# Altium footprint library LV_Switch.PcbLib: 2 footprints
Each footprint in its own frame and in the unit in brackets; x right, y up, seen from the top. Pads: shape width x height; smd on the part's side, far side on the other; paste and mask are expansions set on the pad; w line width, h text height; cw(c..) or ccw(c..) is an arc to the next point about the centre after c.
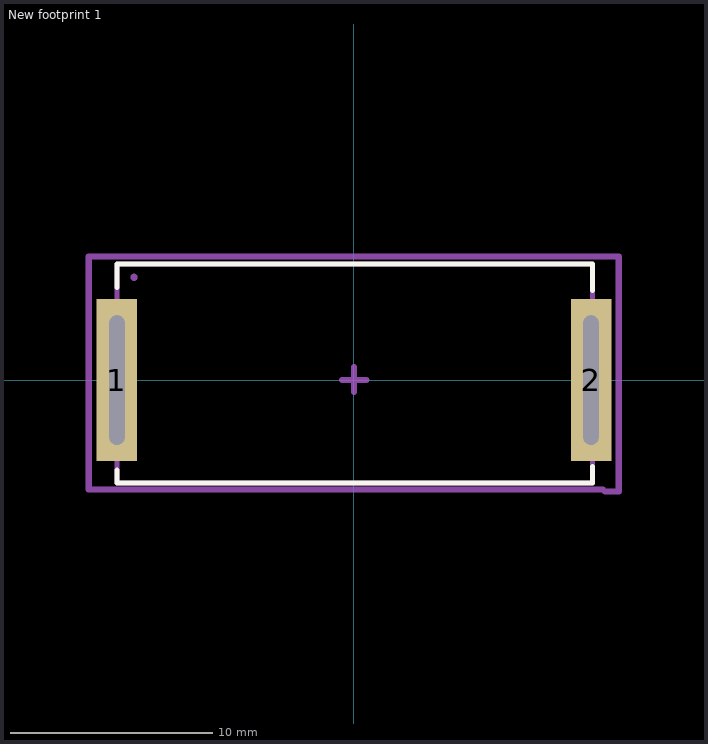
[diagram p0: the footprints below, top view; thin cyan lines are the x and y axes]

## New footprint 1 [mm]
pads (2):
  rect 2x8 hole 0.76 slot 6.39 at 90 deg: 1(-11.685,0) 2(11.685,0)
Top Overlay:
  lines w0.254: -11.684,-4.445 -11.684,-5.08 11.43,-5.08 11.745,-5.08 11.75,-5.075 11.75,-4.275 ; -11.684,4.572 -11.684,5.715 11.557,5.715 11.74,5.715 11.75,5.725 11.75,4.425
Top Assembly:
  circle w0.254: c-10.842,5.067 r0.049
  lines w0.254: -11.684,-5.08 -11.684,5.715 11.75,5.715 11.75,-5.08 -11.684,-5.08
Top Courtyard:
  lines w0.3: -13.075,-5.4 -11.7,-5.4 11.825,-5.4 12.275,-5.4 12.375,-5.5 13.05,-5.5 13.05,-5.05 13.05,5.7 13.05,6.1 11.9,6.1 11.75,6.1 -11.675,6.1 -13.075,6.1 -13.075,5.725 -13.075,-5 -13.075,-5.4
Top Component Center:
  lines w0.3: -0.583,-0.001 0.624,-0.001 ; -0.001,0.633 -0.001,-0.574 0,-0.575

## PCBComponent_1 [mm]